# EAGLE library part PICAXE-28 (library picaxe-2.)
PICAXE-28 Controller 20 I/O pins with 8 bit ADC
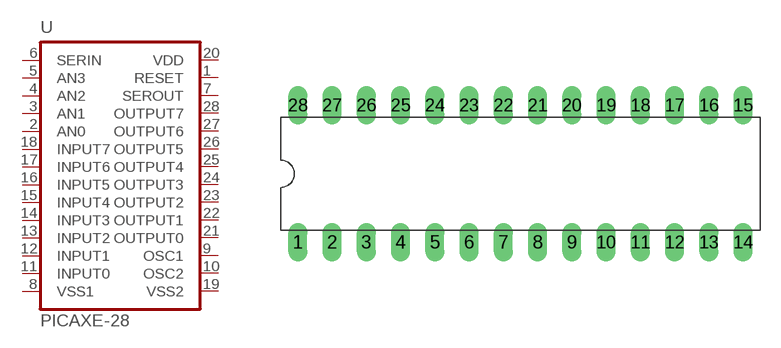
[diagram p2: symbol with the pads of DIL28; footprint DIL28]

Designator prefix U

## PICAXE-28  [DIL28]
1  RESET  in
2  AN0  in
3  AN1  in
4  AN2  in
5  AN3  in
6  SERIN  in
7  SEROUT  out
8  VSS1  pwr
9  OSC1  in
10  OSC2  in
11  INPUT0  in
12  INPUT1  in
13  INPUT2  in
14  INPUT3  in
15  INPUT4  in
16  INPUT5  in
17  INPUT6  in
18  INPUT7  in
19  VSS2  pwr
20  VDD  pwr
21  OUTPUT0  out
22  OUTPUT1  out
23  OUTPUT2  out
24  OUTPUT3  out
25  OUTPUT4  out
26  OUTPUT5  out
27  OUTPUT6  out
28  OUTPUT7  out

## Footprint DIL28 (pad centres in mm)
drill 0.813 pad 1.422 long: 1 -16.51,-5.08; 2 -13.97,-5.08; 3 -11.43,-5.08; 4 -8.89,-5.08; 5 -6.35,-5.08; 6 -3.81,-5.08; 7 -1.27,-5.08; 8 1.27,-5.08; 9 3.81,-5.08; 10 6.35,-5.08; 11 8.89,-5.08; 12 11.43,-5.08; 13 13.97,-5.08; 14 16.51,-5.08; 15 16.51,5.08; 16 13.97,5.08; 17 11.43,5.08; 18 8.89,5.08; 19 6.35,5.08; 20 3.81,5.08; 21 1.27,5.08; 22 -1.27,5.08; 23 -3.81,5.08; 24 -6.35,5.08; 25 -8.89,5.08; 26 -11.43,5.08; 27 -13.97,5.08; 28 -16.51,5.08